# Altium footprint library LM27762.PcbLib: 1 footprints
Each footprint in its own frame and in the unit in brackets; x right, y up, seen from the top. Pads: shape width x height; smd on the part's side, far side on the other; paste and mask are expansions set on the pad; w line width, h text height; cw(c..) or ccw(c..) is an arc to the next point about the centre after c.
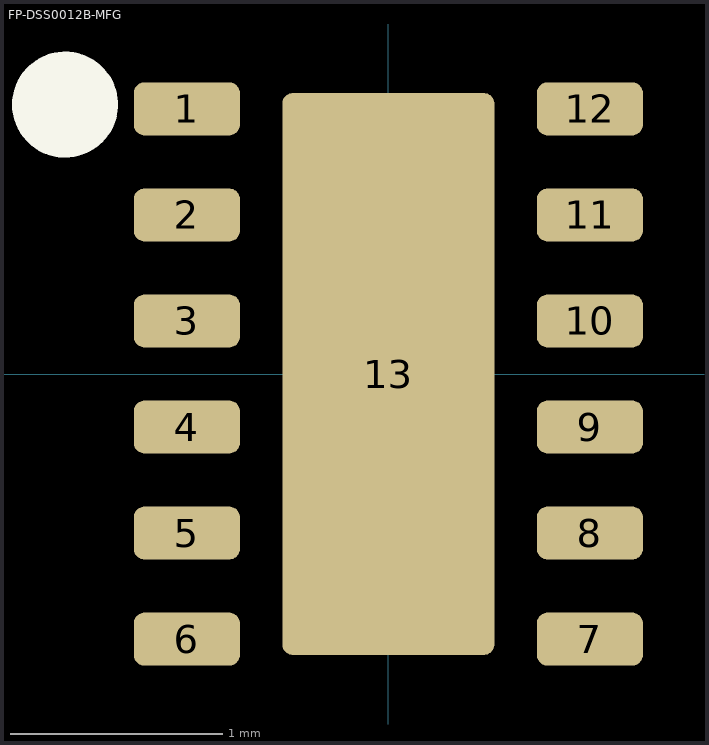
[diagram p0: the footprint, top view; thin cyan lines are the x and y axes]

## FP-DSS0012B-MFG [mm]
pads (13):
  rrect40% 0.5x0.25 smd paste+0 mask+0: 1(-0.95,1.25) 2(-0.95,0.75) 3(-0.95,0.25) 4(-0.95,-0.25) 5(-0.95,-0.75) 6(-0.95,-1.25) 7(0.95,-1.25) 8(0.95,-0.75) 9(0.95,-0.25) 10(0.95,0.25) 11(0.95,0.75) 12(0.95,1.25)
  rrect10% 1x2.65 smd paste-1000 mask+0: 13(0,0)
Top Overlay:
  circle w0.25: c-1.524,1.27 r0.125
Top Paste:
  region: 0.475,-1.22 0.475,-1.23 0.467,-1.248 0.453,-1.262 0.435,-1.27 0.425,-1.27 -0.425,-1.27 -0.435,-1.27 -0.453,-1.262 -0.467,-1.248 -0.475,-1.23 -0.475,-1.22 -0.475,-0.15 -0.475,-0.14 -0.467,-0.122 -0.453,-0.108 -0.435,-0.1 -0.425,-0.1 0.425,-0.1 0.435,-0.1 0.453,-0.108 0.467,-0.122 0.475,-0.14 0.475,-0.15
  region: 0.475,1.22 0.475,0.15 0.475,0.14 0.467,0.122 0.453,0.108 0.435,0.1 0.425,0.1 -0.425,0.1 -0.435,0.1 -0.453,0.108 -0.467,0.122 -0.475,0.14 -0.475,0.15 -0.475,1.22 -0.475,1.23 -0.467,1.248 -0.453,1.262 -0.435,1.27 -0.425,1.27 0.425,1.27 0.435,1.27 0.453,1.262 0.467,1.248 0.475,1.23
3D body "IC_Texas_Instruments_LM27762DSSR_eec.STEP": height 0.25, standoff 0, extent -1.3,-1.65 1.3,1.65